# Altium integrated library TL431CLP.IntLib: 1 symbol
Pins are listed as number, name and electrical type; pins without a type are passive.

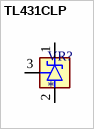
[diagram p0: symbol TL431CLP]

## TL431CLP
designator VR?
Adjustable precision shunt regulator; MF: Texas Instruments; MP: TL431CLP; SnapEDA_Link: https://www.snapeda.com/parts/TL431CLP/Texas+Instruments/view-part/?ref=snap; Package: TO-92 Texas Instruments; Value: *; Check_prices: https://www.snapeda.com/parts/TL431CLP/Texas+Instruments/view-part/?ref=eda
footprint VREG_TL431CLP
pins: 1 CATHODE, 2 ANODE, 3 REF